# Altium footprint library LM2596S_MODULE.PcbLib: 1 footprints
Each footprint in its own frame and in the unit in brackets; x right, y up, seen from the top. Pads: shape width x height; smd on the part's side, far side on the other; paste and mask are expansions set on the pad; w line width, h text height; cw(c..) or ccw(c..) is an arc to the next point about the centre after c.
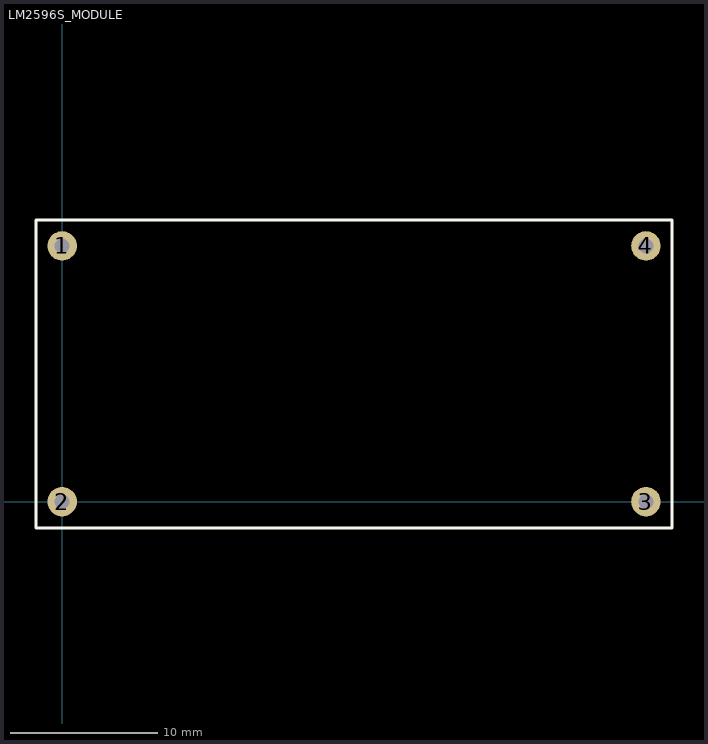
[diagram p0: the footprint, top view; thin cyan lines are the x and y axes]

## LM2596S_MODULE [mm]
pads (4):
  round 2 hole 1: 1(0,17.3) 2(0,0) 3(39.5,0) 4(39.5,17.3)
Top Overlay:
  lines w0.2: -1.778,-1.778 41.275,-1.778 41.275,19.05 -1.778,19.05 -1.778,-1.778